# Altium schematic symbol library ERJ-2GEJ473X.SchLib: 2 symbols
Pins are listed as number, name and electrical type; pins without a type are passive.

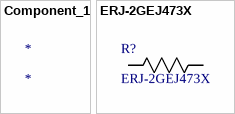
[diagram p0: symbols Component_1 to ERJ-2GEJ473X]

## Component_1
designator *

## ERJ-2GEJ473X
designator R?
No Description Available; Manufacturer_Name: Panasonic; Copyright: Copyright (C) 2025 Ultra Librarian. All rights reserved.; Manufacturer_Part_Number: ERJ-2GEJ473X
footprint RC0402N_PAN
pins: 1, 2